# Altium schematic symbol library diode-schottky-series_0.Schlib: 1 symbol
Pins are listed as number, name and electrical type; pins without a type are passive.

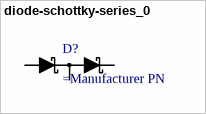
[diagram p0: symbol diode-schottky-series_0]

## diode-schottky-series_0
designator D?
Schottky Series Diodes Anode=1, Cathode=2, Anode/Cathode=3
pins: 1, 2, 3